# Altium schematic symbol library SIM800L.SchLib: 1 symbol
Pins are listed as number, name and electrical type; pins without a type are passive.

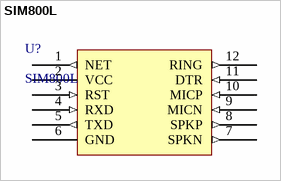
[diagram p0: symbol SIM800L]

## SIM800L
designator U?
footprint SIM800L
pins: 1 NET (out), 2 VCC (power), 3 RST (in), 4 RXD (in), 5 TXD (out), 6 GND (power), 7 SPKN (out), 8 SPKP (out), 9 MICN (in), 10 MICP (in), 11 DTR (in), 12 RING (out)